# EAGLE library part DS1307 (library GadgetFactory_v1)
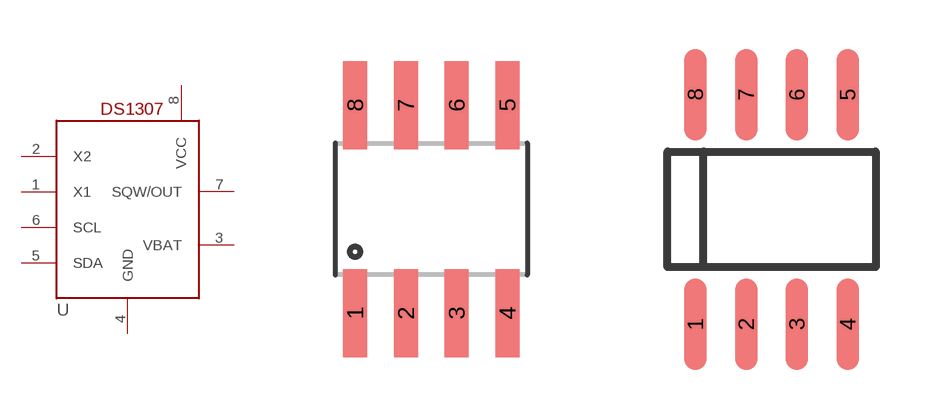
[diagram p55: symbol with the pads of SO8; footprints SO8, SOIC8]

Designator prefix U

## DS1307  [SO8]
1  X1  pas
2  X2  pas
3  VBAT  pwr
4  GND  pwr
5  SDA
6  SCL
7  SQW/OUT
8  VCC  pwr

## DS1307SO  [SOIC8]
Pads as for SO8

## Footprint SO8 (pad centres in mm)
8-Lead Small Outline IC (SO-8) Source: http://www.analog.com/UploadedFiles/Data_Sheets/703465986AD8611_2_0.pdf
smd 0.6 x 2.2: 1 -1.905,-2.6; 2 -0.635,-2.6; 3 0.635,-2.6; 4 1.905,-2.6; 5 1.905,2.6; 6 0.635,2.6; 7 -0.635,2.6; 8 -1.905,2.6

## Footprint SOIC8 (pad centres in mm)
smd 0.559 x 2.286: 1 -1.905,-2.87; 2 -0.635,-2.87; 3 0.635,-2.87; 4 1.905,-2.87; 5 1.905,2.87; 6 0.635,2.87; 7 -0.635,2.87; 8 -1.905,2.87